# EAGLE library part JACK_RJ45_NOMAG_NOLED_TECON (library ek-tm4c129exl)
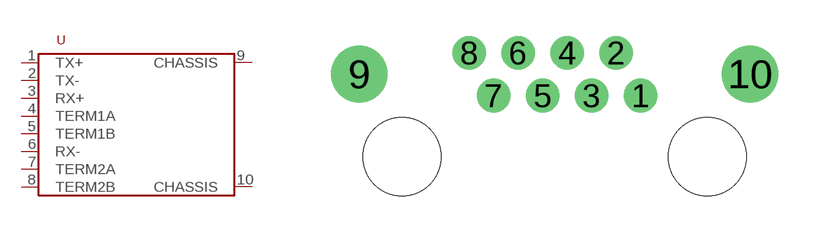
[diagram p2: symbol with the pads of RJ45_TE_CON_NOMAG_NOLED; footprint RJ45_TE_CON_NOMAG_NOLED]

Designator prefix -

## JACK_RJ45_NOMAG_NOLED_TECON  [RJ45_TE_CON_NOMAG_NOLED]
1  TX+
2  TX-
3  RX+
4  TERM1A
5  TERM1B
6  RX-
7  TERM2A
8  TERM2B
9  CHASSIS
10  CHASSIS

## Footprint RJ45_TE_CON_NOMAG_NOLED (pad centres in mm)
drill 0.89: 1 9.93,2.54; 2 8.91,4.32; 3 7.89,2.54; 4 6.87,4.32; 5 5.85,2.54; 6 4.83,4.32; 7 3.81,2.54; 8 2.79,4.32
drill 1.57: 9 -1.78,3.43; 10 14.48,3.43
hole 3.25 at 0,0
hole 3.25 at 12.7,0